# Altium schematic symbol library CeleronLib_Connect.SchLib: 88 symbols (part 1 of 2)
Pins are listed as number, name and electrical type; pins without a type are passive.

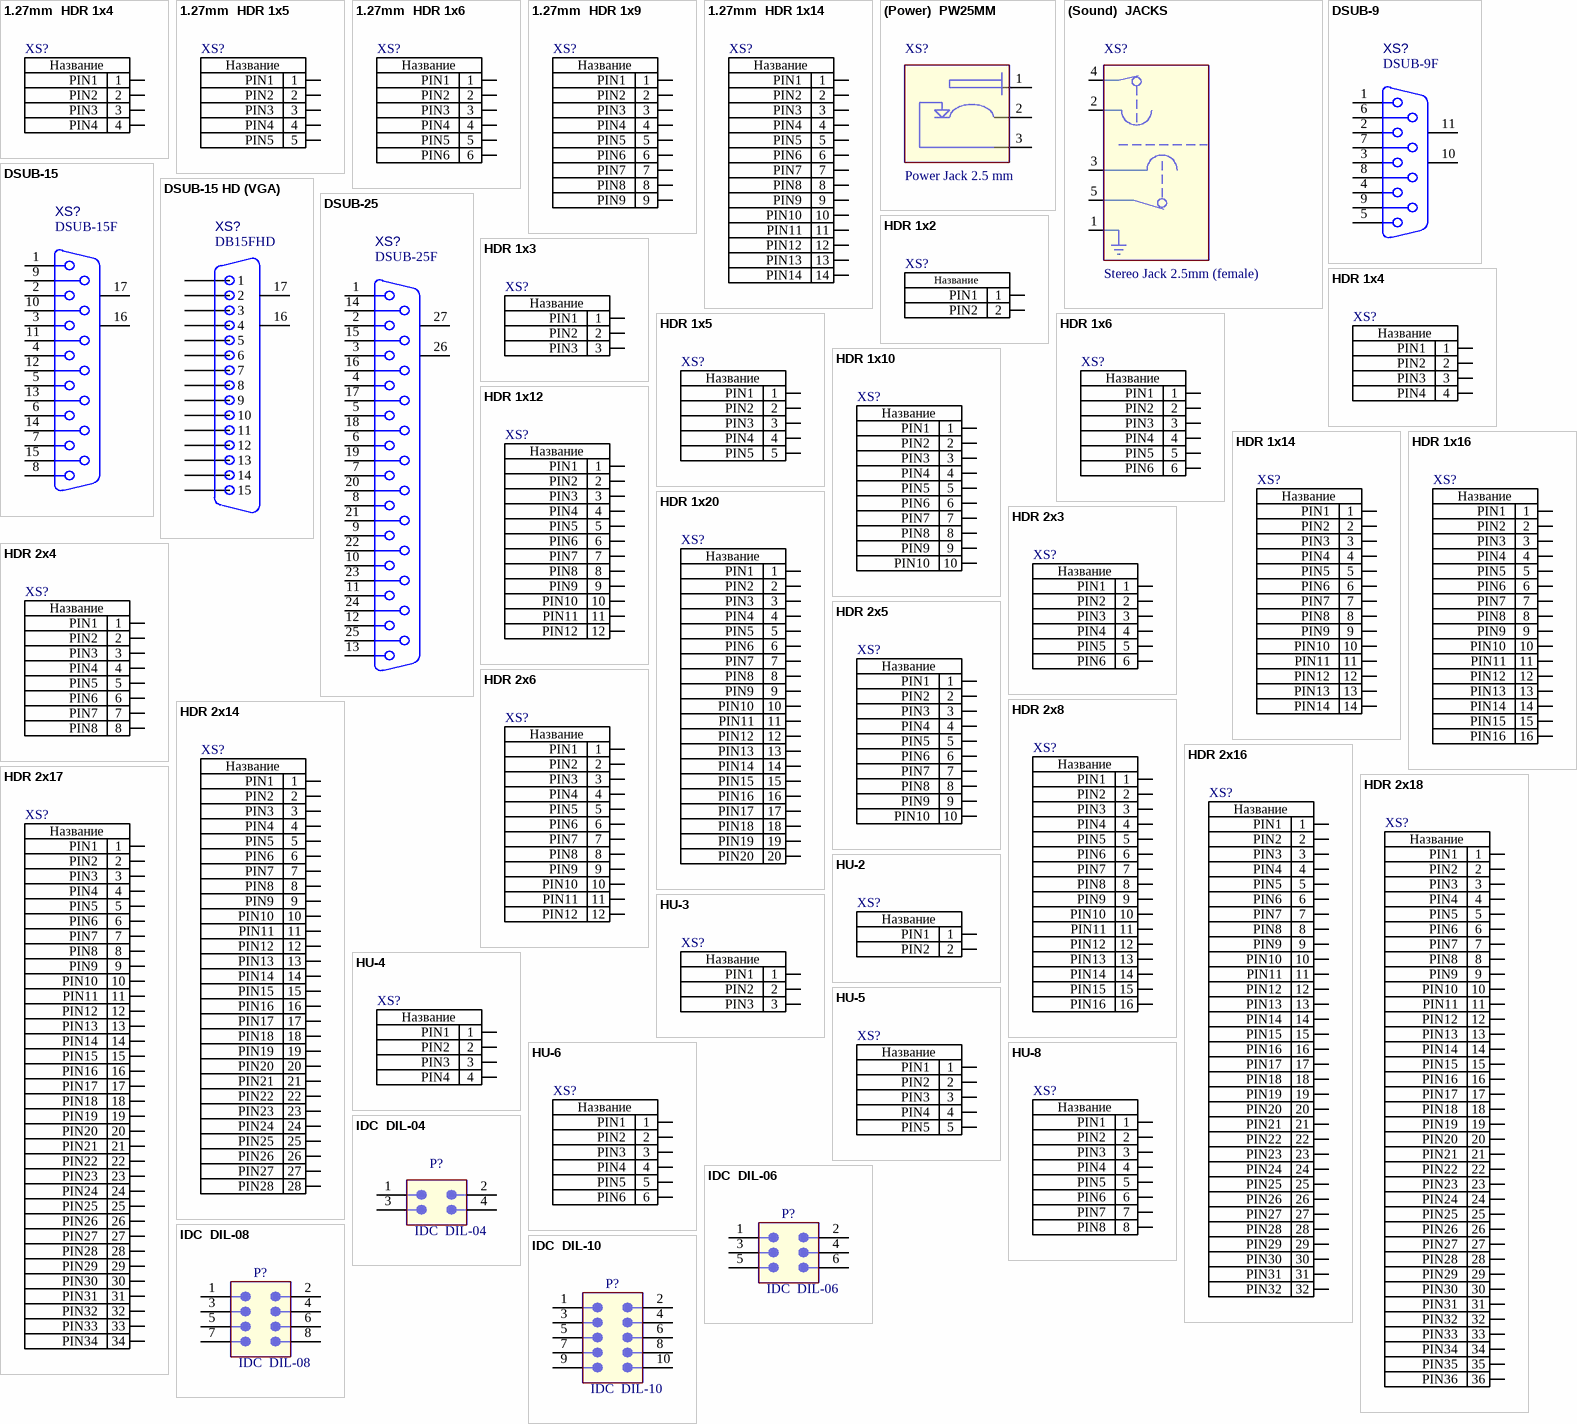
[diagram p0: symbols 1.27mm  HDR 1x4 to IDC  DIL-10]

## 1.27mm  HDR 1x4
designator XS?, comment Name: Название  (hidden comment: Разъём HDR 1x4)
Male, 4 pin single in line, 1.27; Device: HDR 1x4; ComponentLink1Description: Сайт производителя; ComponentLink2Description: Datasheet; Family: Разъём; ComponentLink3Description: Где купить?
footprint 4SIN-50
pins: 1 PIN1, 2 PIN2, 3 PIN3, 4 PIN4

## 1.27mm  HDR 1x5
designator XS?, comment Name: Название  (hidden comment: Разъём HDR 1x5)
Male, 5 pin single in line, 1.27; Device: HDR 1x5; ComponentLink1Description: Сайт производителя; ComponentLink2Description: Datasheet; Family: Разъём; ComponentLink3Description: Где купить?
footprint 5SIN-50
pins: 1 PIN1, 2 PIN2, 3 PIN3, 4 PIN4, 5 PIN5

## 1.27mm  HDR 1x6
designator XS?, comment Name: Название  (hidden comment: Разъём HDR 1x6)
Male, 6 pin single in line, 1.27; Device: HDR 1x6; ComponentLink1Description: Сайт производителя; ComponentLink2Description: Datasheet; Family: Разъём; ComponentLink3Description: Где купить?
footprint 6SIN-50
pins: 1 PIN1, 2 PIN2, 3 PIN3, 4 PIN4, 5 PIN5, 6 PIN6

## 1.27mm  HDR 1x9
designator XS?, comment Name: Название  (hidden comment: Разъём HDR 1x9)
Male, 9 pin single in line, 1.27; Device: HDR 1x9; ComponentLink1Description: Сайт производителя; ComponentLink2Description: Datasheet; Family: Разъём; ComponentLink3Description: Где купить?
footprint 9SIN-50
pins: 1 PIN1, 2 PIN2, 3 PIN3, 4 PIN4, 5 PIN5, 6 PIN6, 7 PIN7, 8 PIN8, 9 PIN9

## 1.27mm  HDR 1x14
designator XS?, comment Name: Название  (hidden comment: Разъём HDR 1x14)
Male, 14 pin single in line, 1.27; ComponentLink1Description: Сайт производителя; ComponentLink2Description: Datasheet; Device: HDR 1x14; Family: Разъём; ComponentLink3Description: Где купить?
footprint 14SIN-50
pins: 1 PIN1, 2 PIN2, 3 PIN3, 4 PIN4, 5 PIN5, 6 PIN6, 7 PIN7, 8 PIN8, 9 PIN9, 10 PIN10, 11 PIN11, 12 PIN12, 13 PIN13, 14 PIN14

## (Power)  PW25MM
designator XS?, comment Device: Power Jack 2.5 mm  (hidden comment: Разъём Power Jack 2.5 mm)
Power Jack 2.5 mm - with disjunction; Name: Название; ComponentLink1Description: Сайт производителя; ComponentLink2Description: Datasheet; Family: Разъём; ComponentLink3Description: Где купить?
footprint PW25MM (Power jack 2.5mm)
pins: 1, 2, 3

## (Sound)  JACKS
designator XS?, comment Device: Stereo Jack 2.5mm (female)  (hidden comment: Разъём Stereo Jack 2.5mm (female))
jack stereo - female - 2.5mm; Name: Название; ComponentLink1Description: Сайт производителя; ComponentLink2Description: Datasheet; Family: Разъём; ComponentLink3Description: Где купить?
footprint JACK-S-2.5
pins: 1, 2, 3, 4, 5

## DSUB-9
designator XS?, comment Device: DSUB-9F  (hidden comment: Разъём DSUB-9F)
DSub-9 pin; Name: Название; ComponentLink1Description: Сайт производителя; ComponentLink2Description: Datasheet; Family: Разъём; ComponentLink3Description: Где купить?
footprint DSUB-9F - WA (Female)
footprint DSUB-9M - WA (Male)
pins: 1, 2, 3, 4, 5, 6, 7, 8, 9, 10 MH1, 11 MH2

## DSUB-15
designator XS?, comment Device: DSUB-15F  (hidden comment: Разъём DSUB-15F)
DSub-15 pin; Name: Название; ComponentLink1Description: Сайт производителя; ComponentLink2Description: Datasheet; Family: Разъём; ComponentLink3Description: Где купить?
footprint DSUB-15F - WA (Female)
pins: 1, 2, 3, 4, 5, 6, 7, 8, 9, 10, 11, 12, 13, 14, 15, 16 MH1, 17 MH2

## DSUB-15 HD (VGA)
designator XS?, comment Device: DB15FHD  (hidden comment: Разъём DB15FHD)
D-Sub 15 pin 90* female (DB15FHD) / male (DB15MHD); Name: Название; ComponentLink1Description: Сайт производителя; ComponentLink2Description: Datasheet; Family: Разъём; ComponentLink3Description: Где купить?
footprint DB15FHD (VGA 15 DSUB FEMALE)
pins: 1, 2, 3, 4, 5, 6, 7, 8, 9, 10, 11, 12, 13, 14, 15, 16 MH1, 17 MH2

## DSUB-25
designator XS?, comment Device: DSUB-25F  (hidden comment: Разъём DSUB-25F)
DSub-25 pin; Name: Название; ComponentLink1Description: Сайт производителя; ComponentLink2Description: Datasheet; Family: Разъём; ComponentLink3Description: Где купить?
footprint DSUB-25M - WA (Male)
footprint DSUB-25F - WA (Female)
pins: 1, 2, 3, 4, 5, 6, 7, 8, 9, 10, 11, 12, 13, 14, 15, 16, 17, 18, 19, 20, 21, 22, 23, 24, 25, 26 MH1, 27 MH2

## HDR 1x2
designator XS?, comment Name: Название  (hidden comment: Разъём PLS-2)
Male, 2 pin single in line, 2.54; ComponentLink1Description: Сайт производителя; ComponentLink2Description: Datasheet; Device: PLS-2; Family: Разъём; ComponentLink3Description: Где купить?
footprint 2SIN
footprint HDR1X2 (Connector; Header; 2 Position)
footprint HDR1X2 - wide area (Connector; Header; 2 Position)
footprint HDR1X2H (Connector; Header; 2 Position; Right Angle)
footprint HDR1X2H - wide area (Connector; Header; 2 Position; Right Angle)
pins: 1 PIN1, 2 PIN2
1 alternate drawing of the same symbol

## HDR 1x3
designator XS?, comment Name: Название  (hidden comment: Разъём PLS-3)
Male, 3 pin single in line, 2.54; ComponentLink1Description: Сайт производителя; ComponentLink2Description: Datasheet; Device: PLS-3; Family: Разъём; ComponentLink3Description: Где купить?
footprint 3SIN
footprint HDR1X3 (Connector; Header; 3 Position)
footprint HDR1X3 - WA (Connector; Header; 3 Position)
footprint HDR1X3H (Connector; Header; 3 Position; Right Angle)
footprint HDR1X3H - wa (Connector; Header; 3 Position; Right Angle)
pins: 1 PIN1, 2 PIN2, 3 PIN3
1 alternate drawing of the same symbol

## HDR 1x4
designator XS?, comment Name: Название  (hidden comment: Разъём PLS-4)
Male, 4 pin single in line, 2.54; ComponentLink1Description: Сайт производителя; ComponentLink2Description: Datasheet; Device: PLS-4; Family: Разъём; ComponentLink3Description: Где купить?
footprint 4SIN
footprint HDR1X4 (Разъем двухрядный, шаг 2,54 мм.)
footprint HDR1X4 - WA (Разъем двухрядный, шаг 2,54 мм.)
footprint HDR1X4H (Connector; Header; 4 Position; Right Angle)
footprint HDR1X4H - wa (Connector; Header; 4 Position; Right Angle)
pins: 1 PIN1, 2 PIN2, 3 PIN3, 4 PIN4
1 alternate drawing of the same symbol

## HDR 1x5
designator XS?, comment Name: Название  (hidden comment: Разъём PLS-5)
Male, 5 pin single in line, 2.54; ComponentLink1Description: Сайт производителя; ComponentLink2Description: Datasheet; Device: PLS-5; Family: Разъём; ComponentLink3Description: Где купить?
footprint 5SIN
footprint HDR1X5 (Connector; Header; 5 Position)
footprint HDR1X5 - wide area (Connector; Header; 5 Position)
footprint HDR1X5H (Connector; Header; 5 Position; Right Angle)
footprint HDR1X5H - wa (Connector; Header; 5 Position; Right Angle)
pins: 1 PIN1, 2 PIN2, 3 PIN3, 4 PIN4, 5 PIN5
1 alternate drawing of the same symbol

## HDR 1x6
designator XS?, comment Name: Название  (hidden comment: Разъём PLS-6)
Male, 6 pin single in line, 2.54; ComponentLink1Description: Сайт производителя; ComponentLink2Description: Datasheet; Device: PLS-6; Family: Разъём; ComponentLink3Description: Где купить?
footprint 6SIN
footprint HDR1X6 (Connector; Header; 6 Position)
footprint HDR1X6 - wide area (Connector; Header; 6 Position)
footprint HDR1X6H - wa (Connector; Header; 6 Position; Right Angle)
footprint HDR1X6H (Connector; Header; 6 Position; Right Angle)
pins: 1 PIN1, 2 PIN2, 3 PIN3, 4 PIN4, 5 PIN5, 6 PIN6
1 alternate drawing of the same symbol

## HDR 1x10
designator XS?, comment Name: Название  (hidden comment: Разъём PLS-10)
Male, 10 pin single in line, 2.54; ComponentLink1Description: Сайт производителя; ComponentLink2Description: Datasheet; Device: PLS-10; Family: Разъём; ComponentLink3Description: Где купить?
footprint 10SIN
footprint HDR1X10 (Connector; Header; 10 Position)
footprint HDR1X10 - wa (Connector; Header; 10 Position)
footprint HDR1X10H (Connector; Header; 10 Position; Right Angle)
footprint HDR1X10H - wa (Connector; Header; 10 Position; Right Angle)
pins: 1 PIN1, 2 PIN2, 3 PIN3, 4 PIN4, 5 PIN5, 6 PIN6, 7 PIN7, 8 PIN8, 9 PIN9, 10 PIN10
1 alternate drawing of the same symbol

## HDR 1x12
designator XS?, comment Name: Название  (hidden comment: Разъём PLS-12)
Male, 12 pin single in line, 2.54; ComponentLink1Description: Сайт производителя; ComponentLink2Description: Datasheet; Device: PLS-12; Family: Разъём; ComponentLink3Description: Где купить?
footprint HDR1X12 (Connector; Header; 12 Position)
footprint HDR1X12 - WA (Connector; Header; 12 Position)
pins: 1 PIN1, 2 PIN2, 3 PIN3, 4 PIN4, 5 PIN5, 6 PIN6, 7 PIN7, 8 PIN8, 9 PIN9, 10 PIN10, 11 PIN11, 12 PIN12
1 alternate drawing of the same symbol

## HDR 1x14
designator XS?, comment Name: Название  (hidden comment: Разъём PLS-14)
Male, 14 pin single in line, 2.54; ComponentLink1Description: Сайт производителя; ComponentLink2Description: Datasheet; Device: PLS-14; Family: Разъём; ComponentLink3Description: Где купить?
footprint 14SIN
footprint HDR1X14 - WA (Connector; Header; 14 Position)
pins: 1 PIN1, 2 PIN2, 3 PIN3, 4 PIN4, 5 PIN5, 6 PIN6, 7 PIN7, 8 PIN8, 9 PIN9, 10 PIN10, 11 PIN11, 12 PIN12, 13 PIN13, 14 PIN14
1 alternate drawing of the same symbol

## HDR 1x16
designator XS?, comment Name: Название  (hidden comment: Разъём PLS-16)
Male, 16 pin single in line, 2.54; ComponentLink1Description: Сайт производителя; ComponentLink2Description: Datasheet; Device: PLS-16; Family: Разъём; ComponentLink3Description: Где купить?
footprint HDR1X16 - WA (Connector; Header; 16 Position)
pins: 1 PIN1, 2 PIN2, 3 PIN3, 4 PIN4, 5 PIN5, 6 PIN6, 7 PIN7, 8 PIN8, 9 PIN9, 10 PIN10, 11 PIN11, 12 PIN12, 13 PIN13, 14 PIN14, 15 PIN15, 16 PIN16
1 alternate drawing of the same symbol

## HDR 1x20
designator XS?, comment Name: Название  (hidden comment: Разъём PLS-20)
Male, 20 pin single in line, 2.54; ComponentLink1Description: Сайт производителя; ComponentLink2Description: Datasheet; Device: PLS-20; Family: Разъём; ComponentLink3Description: Где купить?
footprint 20SIN
pins: 1 PIN1, 2 PIN2, 3 PIN3, 4 PIN4, 5 PIN5, 6 PIN6, 7 PIN7, 8 PIN8, 9 PIN9, 10 PIN10, 11 PIN11, 12 PIN12, 13 PIN13, 14 PIN14, 15 PIN15, 16 PIN16, 17 PIN17, 18 PIN18, 19 PIN19, 20 PIN20
1 alternate drawing of the same symbol

## HDR 2x3
designator XS?, comment Name: Название  (hidden comment: Разъём PLD-6)
Male, 6 pin dual in line, 2.54; ComponentLink1Description: Сайт производителя; ComponentLink2Description: Datasheet; Device: PLD-6; Family: Разъём; ComponentLink3Description: Где купить?
footprint HDR2X3 (Connector; Header; 3x2 Position)
footprint HDR2X3 - wa (Connector; Header; 3x2 Position)
footprint HDR2X3H (Connector; Header; 3x2 Position; Right Angle)
footprint HDR2X3H - wa (Connector; Header; 3x2 Position; Right Angle)
footprint HDR2X3_CEN (Connector; Header; 3x2 Position)
footprint HDR2X3_CEN - wa (Connector; Header; 3x2 Position)
pins: 1 PIN1, 2 PIN2, 3 PIN3, 4 PIN4, 5 PIN5, 6 PIN6
1 alternate drawing of the same symbol

## HDR 2x4
designator XS?, comment Name: Название  (hidden comment: Разъём PLD-8)
Male, 8 pin dual in line, 2.54; ComponentLink1Description: Сайт производителя; ComponentLink2Description: Datasheet; Device: PLD-8; Family: Разъём; ComponentLink3Description: Где купить?
footprint HDR2X4 (Connector; Header; 4x2 Position)
footprint HDR2X4 - wide area (Connector; Header; 4x2 Position)
pins: 1 PIN1, 2 PIN2, 3 PIN3, 4 PIN4, 5 PIN5, 6 PIN6, 7 PIN7, 8 PIN8
1 alternate drawing of the same symbol

## HDR 2x5
designator XS?, comment Name: Название  (hidden comment: Разъём PLD-10)
Male, 10 pin dual in line, 2.54; ComponentLink1Description: Сайт производителя; ComponentLink2Description: Datasheet; Device: PLD-10; Family: Разъём; ComponentLink3Description: Где купить?
footprint HDR2X5 (Разъем двухрядный, шаг 2,54 мм.)
footprint HDR2X5 - WA (Разъем двухрядный, шаг 2,54 мм.)
footprint HDR2X5H (Connector; Header; 5x2 Position; Right Angle)
footprint HDR2X5H - WA (Connector; Header; 5x2 Position; Right Angle)
footprint HDR2X5_CEN (Разъем двухрядный, шаг 2,54 мм.)
footprint HDR2X5_CEN - WA (Разъем двухрядный, шаг 2,54 мм.)
pins: 1 PIN1, 2 PIN2, 3 PIN3, 4 PIN4, 5 PIN5, 6 PIN6, 7 PIN7, 8 PIN8, 9 PIN9, 10 PIN10
1 alternate drawing of the same symbol

## HDR 2x6
designator XS?, comment Name: Название  (hidden comment: Разъём PLD-12)
Male, 12 pin dual in line, 2.54; ComponentLink1Description: Сайт производителя; ComponentLink2Description: Datasheet; Device: PLD-12; Family: Разъём; ComponentLink3Description: Где купить?
footprint HDR2X6 (Connector; Header; 6x2 Position)
footprint HDR2X6 - wa (Connector; Header; 6x2 Position)
footprint HDR2X6H (Connector; Header; 6x2 Position; Right Angle)
footprint HDR2X6H - wa (Connector; Header; 6x2 Position; Right Angle)
footprint HDR2X6_CEN (Connector; Header; 6x2 Position)
footprint HDR2X6_CEN - wa (Connector; Header; 6x2 Position)
pins: 1 PIN1, 2 PIN2, 3 PIN3, 4 PIN4, 5 PIN5, 6 PIN6, 7 PIN7, 8 PIN8, 9 PIN9, 10 PIN10, 11 PIN11, 12 PIN12
1 alternate drawing of the same symbol

## HDR 2x8
designator XS?, comment Name: Название  (hidden comment: Разъём PLD-16)
Male, 16 pin dual in line, 2.54; ComponentLink1Description: Сайт производителя; ComponentLink2Description: Datasheet; Device: PLD-16; Family: Разъём; ComponentLink3Description: Где купить?
footprint HDR2X8 - WA (Connector; Header; 16 Position)
pins: 1 PIN1, 2 PIN2, 3 PIN3, 4 PIN4, 5 PIN5, 6 PIN6, 7 PIN7, 8 PIN8, 9 PIN9, 10 PIN10, 11 PIN11, 12 PIN12, 13 PIN13, 14 PIN14, 15 PIN15, 16 PIN16
1 alternate drawing of the same symbol

## HDR 2x14
designator XS?, comment Name: Название  (hidden comment: Разъём PLD-28)
Male, 28 pin dual in line, 2.54; ComponentLink1Description: Сайт производителя; ComponentLink2Description: Datasheet; Device: PLD-28; Family: Разъём; ComponentLink3Description: Где купить?
footprint HDR2X14 - WA (Connector; Header; 28 Position)
pins: 1 PIN1, 2 PIN2, 3 PIN3, 4 PIN4, 5 PIN5, 6 PIN6, 7 PIN7, 8 PIN8, 9 PIN9, 10 PIN10, 11 PIN11, 12 PIN12, 13 PIN13, 14 PIN14, 15 PIN15, 16 PIN16, 17 PIN17, 18 PIN18, 19 PIN19, 20 PIN20, 21 PIN21, 22 PIN22, 23 PIN23, 24 PIN24, 25 PIN25, 26 PIN26, 27 PIN27, 28 PIN28
1 alternate drawing of the same symbol

## HDR 2x16
designator XS?, comment Name: Название  (hidden comment: Разъём PLD-32)
Male, 32 pin dual in line, 2.54; ComponentLink1Description: Сайт производителя; ComponentLink2Description: Datasheet; Device: PLD-32; Family: Разъём; ComponentLink3Description: Где купить?
footprint HDR2X16 - WA (Connector; Header; 32 Position)
pins: 1 PIN1, 2 PIN2, 3 PIN3, 4 PIN4, 5 PIN5, 6 PIN6, 7 PIN7, 8 PIN8, 9 PIN9, 10 PIN10, 11 PIN11, 12 PIN12, 13 PIN13, 14 PIN14, 15 PIN15, 16 PIN16, 17 PIN17, 18 PIN18, 19 PIN19, 20 PIN20, 21 PIN21, 22 PIN22, 23 PIN23, 24 PIN24, 25 PIN25, 26 PIN26, 27 PIN27, 28 PIN28, 29 PIN29, 30 PIN30, 31 PIN31, 32 PIN32
1 alternate drawing of the same symbol

## HDR 2x17
designator XS?, comment Name: Название  (hidden comment: Разъём PLD-34)
Male, 34 pin dual in line, 2.54; ComponentLink1Description: Сайт производителя; ComponentLink2Description: Datasheet; Device: PLD-34; Family: Разъём; ComponentLink3Description: Где купить?
footprint HDR2X17 - WA (Connector; Header; 34 Position)
pins: 1 PIN1, 2 PIN2, 3 PIN3, 4 PIN4, 5 PIN5, 6 PIN6, 7 PIN7, 8 PIN8, 9 PIN9, 10 PIN10, 11 PIN11, 12 PIN12, 13 PIN13, 14 PIN14, 15 PIN15, 16 PIN16, 17 PIN17, 18 PIN18, 19 PIN19, 20 PIN20, 21 PIN21, 22 PIN22, 23 PIN23, 24 PIN24, 25 PIN25, 26 PIN26, 27 PIN27, 28 PIN28, 29 PIN29, 30 PIN30, 31 PIN31, 32 PIN32, 33 PIN33, 34 PIN34
1 alternate drawing of the same symbol

## HDR 2x18
designator XS?, comment Name: Название  (hidden comment: Разъём PLD-36)
Male, 36 pin dual in line, 2.54; ComponentLink1Description: Сайт производителя; ComponentLink2Description: Datasheet; Device: PLD-36; Family: Разъём; ComponentLink3Description: Где купить?
footprint HDR2X18 - WA (Connector; Header; 36 Position)
pins: 1 PIN1, 2 PIN2, 3 PIN3, 4 PIN4, 5 PIN5, 6 PIN6, 7 PIN7, 8 PIN8, 9 PIN9, 10 PIN10, 11 PIN11, 12 PIN12, 13 PIN13, 14 PIN14, 15 PIN15, 16 PIN16, 17 PIN17, 18 PIN18, 19 PIN19, 20 PIN20, 21 PIN21, 22 PIN22, 23 PIN23, 24 PIN24, 25 PIN25, 26 PIN26, 27 PIN27, 28 PIN28, 29 PIN29, 30 PIN30, 31 PIN31, 32 PIN32, 33 PIN33, 34 PIN34, 35 PIN35, 36 PIN36
1 alternate drawing of the same symbol

## HU-2
designator XS?, comment Name: Название  (hidden comment: Разъём HU-2)
Male, 2 pin single in line, 2.54; ComponentLink1Description: Сайт производителя; ComponentLink2Description: Datasheet; Device: HU-2; Family: Разъём; ComponentLink3Description: Где купить?
footprint HU,WH-2 - WA (Connector; Header; 2 Position)
pins: 1 PIN1, 2 PIN2

## HU-3
designator XS?, comment Name: Название  (hidden comment: Разъём HU-3)
Male, 3 pin single in line, 2.54; ComponentLink1Description: Сайт производителя; ComponentLink2Description: Datasheet; Device: HU-3; Family: Разъём; ComponentLink3Description: Где купить?
footprint HU,WH-3 - WA (Connector; Header; 3 Position)
pins: 1 PIN1, 2 PIN2, 3 PIN3

## HU-4
designator XS?, comment Name: Название  (hidden comment: Разъём HU-4)
Male, 4 pin single in line, 2.54; ComponentLink1Description: Сайт производителя; ComponentLink2Description: Datasheet; Device: HU-4; Family: Разъём; ComponentLink3Description: Где купить?
footprint HU,WH-4 - WA (Connector; Header; 4 Position)
pins: 1 PIN1, 2 PIN2, 3 PIN3, 4 PIN4

## HU-5
designator XS?, comment Name: Название  (hidden comment: Разъём HU-5)
Male, 5 pin single in line, 2.54; ComponentLink1Description: Сайт производителя; ComponentLink2Description: Datasheet; Device: HU-5; Family: Разъём; ComponentLink3Description: Где купить?
footprint HU,WH-5 - WA (Connector; Header; 5 Position)
pins: 1 PIN1, 2 PIN2, 3 PIN3, 4 PIN4, 5 PIN5

## HU-6
designator XS?, comment Name: Название  (hidden comment: Разъём HU-6)
Male, 6 pin single in line, 2.54; ComponentLink1Description: Сайт производителя; ComponentLink2Description: Datasheet; Device: HU-6; Family: Разъём; ComponentLink3Description: Где купить?
footprint HU,WH-6 - WA (Connector; Header; 6 Position)
pins: 1 PIN1, 2 PIN2, 3 PIN3, 4 PIN4, 5 PIN5, 6 PIN6

## HU-8
designator XS?, comment Name: Название  (hidden comment: Разъём HU-8)
Male, 8 pin single in line, 2.54; ComponentLink1Description: Сайт производителя; ComponentLink2Description: Datasheet; Device: HU-8; Family: Разъём; ComponentLink3Description: Где купить?
footprint HU,WH-8 - WA (Connector; Header; 8 Position)
pins: 1 PIN1, 2 PIN2, 3 PIN3, 4 PIN4, 5 PIN5, 6 PIN6, 7 PIN7, 8 PIN8

## IDC  DIL-04
designator P?
Flat Cable Connector (IDC), PCB Transition Connector, 2 Rows, Solder Pin, 4 Contacts; Name: Название; ComponentLink1Description: Сайт производителя; ComponentLink1URL: http://www.harting.com/; ComponentLink2Description: Selection Guide; ComponentLink2URL: http://www.harting.com/imperia/md/content/steckverbinderundsystemkomponenten/folder/interface_engl_chapter_09.pdf; Device: IDC  DIL-04; Family: Разъём; ComponentLink3Description: Где купить?
footprint DIL-04-SV (Connector; IDC, PCB Transition - 2 Rows, Thru-Hole; 4 Position; Vertical; Pitch 2.54 mm; Body 10.38 x 6.1 x 7.45 mm (LxWxH))
pins: 1, 2, 3, 4

## IDC  DIL-06
designator P?
Flat Cable Connector (IDC), PCB Transition Connector, 2 Rows, Solder Pin, 6 Contacts; Name: Название; ComponentLink1Description: Сайт производителя; ComponentLink1URL: http://www.harting.com/; ComponentLink2Description: Selection Guide; ComponentLink2URL: http://www.harting.com/imperia/md/content/steckverbinderundsystemkomponenten/folder/interface_engl_chapter_09.pdf; Device: IDC  DIL-06; Family: Разъём; ComponentLink3Description: Где купить?
footprint DIL-06-SV (Connector; IDC, PCB Transition - 2 Rows, Thru-Hole; 6 Position; Vertical; Pitch 2.54 mm; Body 12.92 x 6.1 x 7.45 mm (LxWxH))
footprint DIL-06-HV (Connector; IDC, Thru-Hole; 6 Position; Vertical; Pitch 2.54 mm; Body 26.90 x 8.5 x 17.30 mm (LxWxH), Without locking levers)
pins: 1, 2, 3, 4, 5, 6

## IDC  DIL-08
designator P?
Flat Cable Connector (IDC), PCB Transition Connector, 2 Rows, Solder Pin, 8 Contacts; Name: Название; ComponentLink1Description: Сайт производителя; ComponentLink1URL: http://www.harting.com/; ComponentLink2Description: Packaging Specification; ComponentLink2URL: http://www.harkis.harting.com/_sek/pdf/TB_09181089621_BL01_R32151.pdf; Device: IDC  DIL-08; Family: Разъём; ComponentLink3Description: Где купить?
footprint DIL-08-SV (Connector; IDC, PCB Transition - 2 Rows, Thru-Hole; 8 Position; Vertical; Pitch 2.54 mm; Body 15.46 x 6.1 x 7.45 mm (LxWxH))
pins: 1, 2, 3, 4, 5, 6, 7, 8

## IDC  DIL-10
designator P?
Flat Cable Connector (IDC), PCB Transition Connector, 2 Rows, Solder Pin, 10 Contacts; Name: Название; ComponentLink1Description: Сайт производителя; ComponentLink1URL: http://www.harting.com/; ComponentLink2Description: Selection Guide; ComponentLink2URL: http://www.harting.com/imperia/md/content/steckverbinderundsystemkomponenten/folder/interface_engl_chapter_09.pdf; Device: IDC  DIL-10; Family: Разъём; ComponentLink3Description: Где купить?
footprint DIL-10-SV (Connector; IDC, PCB Transition - 2 Rows, Thru-Hole; 10 Position; Vertical; Pitch 2.54 mm; Body 18.00 x 6.1 x 7.45 mm (LxWxH))
footprint DIL-10-HV (Connector; IDC, Thru-Hole; 10 Position; Vertical; Pitch 2.54 mm; Body 32.30 x 8.5 x 17.30 mm (LxWxH), Without locking levers)
footprint BH-10 HDR2X5 (Footprint not found)
footprint BH-10 HDR2X5 - wide area (Connector; Header; 5x2 Position)
footprint BH-10  2x5 mini (Connector; Header; 5x2 Position)
footprint BH-10  2x5 mini - wa (Connector; Header; 5x2 Position)
pins: 1, 2, 3, 4, 5, 6, 7, 8, 9, 10

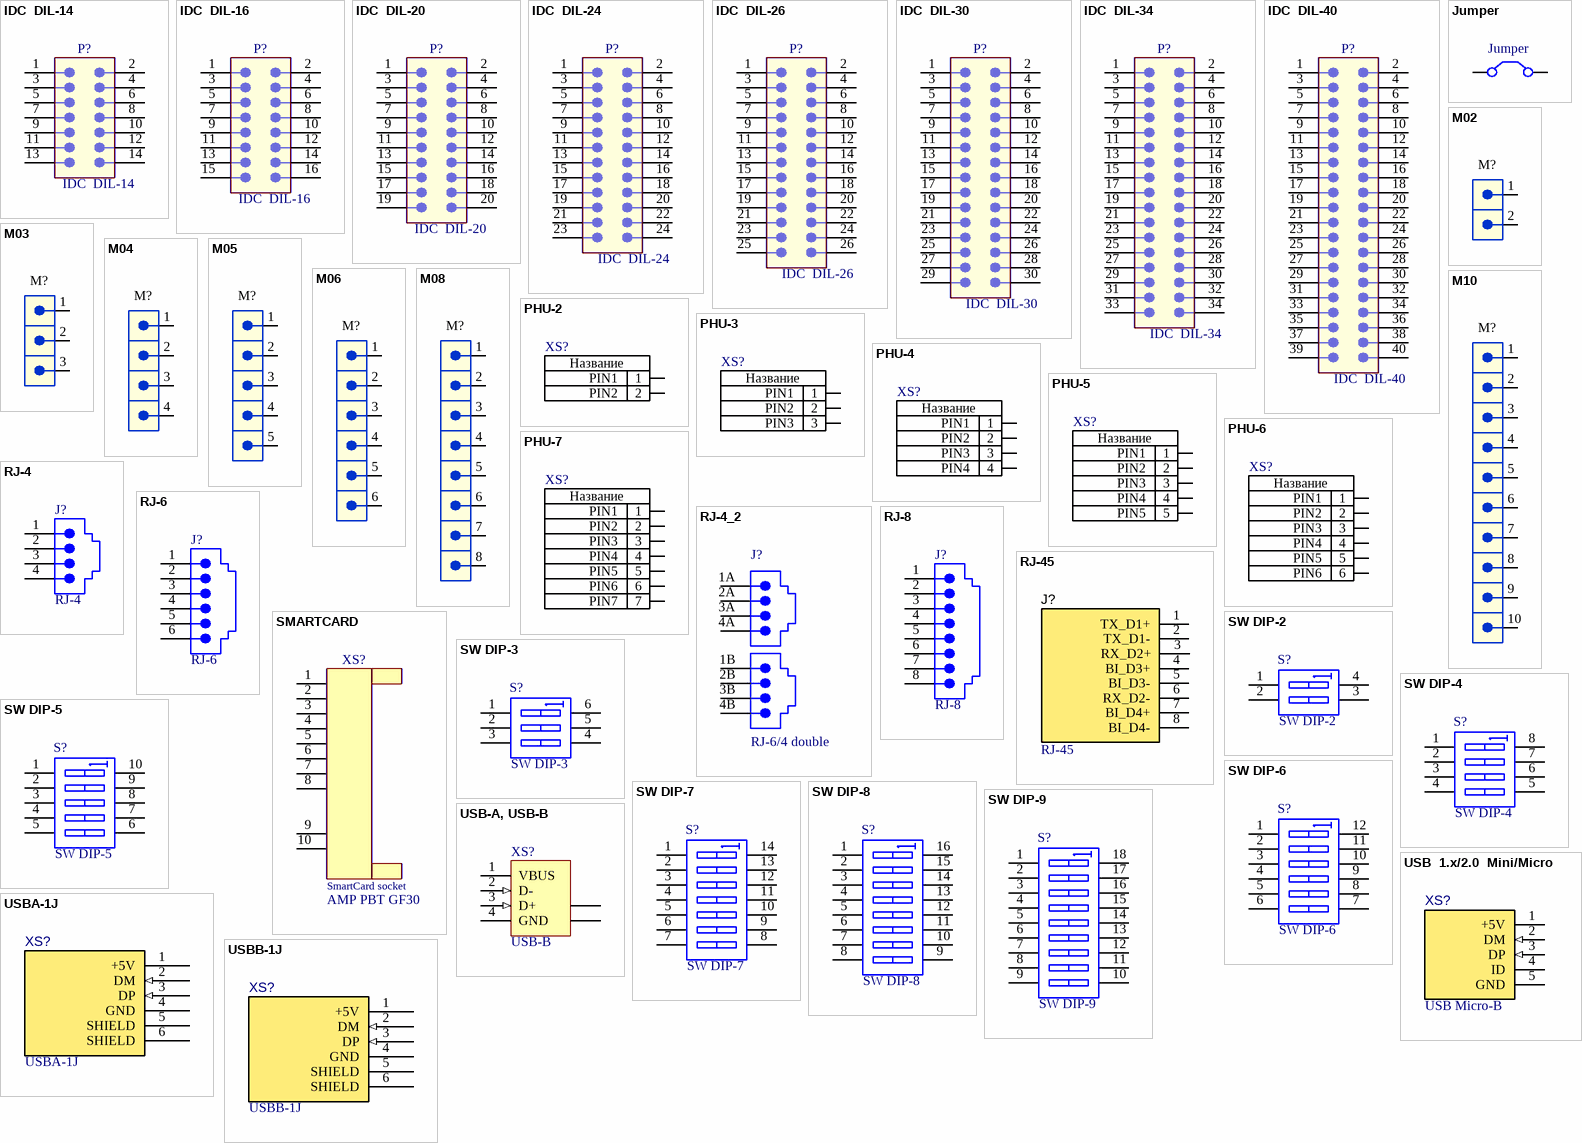
[diagram p1: symbols IDC  DIL-14 to USBB-1J]

## IDC  DIL-14
designator P?
Flat Cable Connector (IDC), PCB Transition Connector, 2 Rows, Solder Pin, 14 Contacts; Name: Название; ComponentLink1Description: Сайт производителя; ComponentLink1URL: http://www.harting.com/; ComponentLink2Description: Selection Guide; ComponentLink2URL: http://www.harting.com/imperia/md/content/steckverbinderundsystemkomponenten/folder/interface_engl_chapter_09.pdf; Device: IDC  DIL-14; Family: Разъём; ComponentLink3Description: Где купить?
footprint DIL-14-SV (Connector; IDC, PCB Transition - 2 Rows, Thru-Hole; 14 Position; Vertical; Pitch 2.54 mm; Body 23.08 x 6.1 x 7.45 mm (LxWxH))
footprint DIL-14-HV (Connector; IDC, Thru-Hole; 14 Position; Vertical; Pitch 2.54 mm; Body 37.40 x 8.5 x 17.30 mm (LxWxH), Without locking levers)
pins: 1, 2, 3, 4, 5, 6, 7, 8, 9, 10, 11, 12, 13, 14

## IDC  DIL-16
designator P?
Flat Cable Connector (IDC), PCB Transition Connector, 2 Rows, Solder Pin, 16 Contacts; Name: Название; ComponentLink1Description: Сайт производителя; ComponentLink1URL: http://www.harting.com/; ComponentLink2Description: Selection Guide; ComponentLink2URL: http://www.harting.com/imperia/md/content/steckverbinderundsystemkomponenten/folder/interface_engl_chapter_09.pdf; Device: IDC  DIL-16; Family: Разъём; ComponentLink3Description: Где купить?
footprint DIL-16-SV (Connector; IDC, PCB Transition - 2 Rows, Thru-Hole; 16 Position; Vertical; Pitch 2.54 mm; Body 25.62 x 6.1 x 7.45 mm (LxWxH))
footprint DIL-16-HV (Connector; IDC, Thru-Hole; 16 Position; Vertical; Pitch 2.54 mm; Body 39.90 x 8.5 x 17.30 mm (LxWxH), Without locking levers)
pins: 1, 2, 3, 4, 5, 6, 7, 8, 9, 10, 11, 12, 13, 14, 15, 16

## IDC  DIL-20
designator P?
Flat Cable Connector (IDC), PCB Transition Connector, 2 Rows, Solder Pin, 20 Contacts; Name: Название; ComponentLink1Description: Сайт производителя; ComponentLink1URL: http://www.harting.com/; ComponentLink2Description: Selection Guide; ComponentLink2URL: http://www.harting.com/imperia/md/content/steckverbinderundsystemkomponenten/folder/interface_engl_chapter_09.pdf; Device: IDC  DIL-20; Family: Разъём; ComponentLink3Description: Где купить?
footprint DIL-20-SV (Connector; IDC, PCB Transition - 2 Rows, Thru-Hole; 20 Position; Vertical; Pitch 2.54 mm; Body 30.74 x 6.1 x 7.45 mm (LxWxH))
footprint DIL-20-HV (Connector; IDC, Thru-Hole; 20 Position; Vertical; Pitch 2.54 mm; Body 45.00 x 8.5 x 17.30 mm (LxWxH), Without locking levers)
footprint BH20 2X10 (Connector; Header; 10x2 Position)
footprint BH20 2X10 - wide area (Connector; Header; 10x2 wide area)
footprint BH20 2X10 MINI (Connector; Header; 10x2 Position)
pins: 1, 2, 3, 4, 5, 6, 7, 8, 9, 10, 11, 12, 13, 14, 15, 16, 17, 18, 19, 20

## IDC  DIL-24
designator P?
Flat Cable Connector (IDC), PCB Transition Connector, 2 Rows, Solder Pin, 24 Contacts; Name: Название; ComponentLink1Description: Сайт производителя; ComponentLink1URL: http://www.harting.com/; ComponentLink2Description: Packaging Specification; ComponentLink2URL: http://www.harkis.harting.com/_sek/pdf/TB_09181249621_BL01_R32151.pdf; Device: IDC  DIL-24; Family: Разъём; ComponentLink3Description: Где купить?
footprint DIL-24-SV (Connector; IDC, PCB Transition - 2 Rows, Thru-Hole; 24 Position; Vertical; Pitch 2.54 mm; Body 35.78 x 6.1 x 7.45 mm (LxWxH))
pins: 1, 2, 3, 4, 5, 6, 7, 8, 9, 10, 11, 12, 13, 14, 15, 16, 17, 18, 19, 20, 21, 22, 23, 24

## IDC  DIL-26
designator P?
Flat Cable Connector (IDC), PCB Transition Connector, 2 Rows, Solder Pin, 26 Contacts; Name: Название; ComponentLink1Description: Сайт производителя; ComponentLink1URL: http://www.harting.com/; ComponentLink2Description: Selection Guide; ComponentLink2URL: http://www.harting.com/imperia/md/content/steckverbinderundsystemkomponenten/folder/interface_engl_chapter_09.pdf; Device: IDC  DIL-26; Family: Разъём; ComponentLink3Description: Где купить?
footprint DIL-26-SV (Connector; IDC, PCB Transition - 2 Rows, Thru-Hole; 26 Position; Vertical; Pitch 2.54 mm; Body 38.32 x 6.1 x 7.45 mm (LxWxH))
footprint DIL-26-HV (Connector; IDC, Thru-Hole; 26 Position; Vertical; Pitch 2.54 mm; Body 52.60 x 8.5 x 17.30 mm (LxWxH), Without locking levers)
pins: 1, 2, 3, 4, 5, 6, 7, 8, 9, 10, 11, 12, 13, 14, 15, 16, 17, 18, 19, 20, 21, 22, 23, 24, 25, 26

## IDC  DIL-30
designator P?
Flat Cable Connector (IDC), PCB Transition Connector, 2 Rows, Solder Pin, 30 Contacts; Name: Название; ComponentLink1Description: Сайт производителя; ComponentLink1URL: http://www.harting.com/; ComponentLink2Description: Packaging Specification; ComponentLink2URL: http://www.harkis.harting.com/_sek/pdf/TB_09181309621_BL01_R32151.pdf; Device: IDC  DIL-30; Family: Разъём; ComponentLink3Description: Где купить?
footprint DIL-30-SV (Connector; IDC, PCB Transition - 2 Rows, Thru-Hole; 30 Position; Vertical; Pitch 2.54 mm; Body 43.40 x 6.1 x 7.45 mm (LxWxH))
pins: 1, 2, 3, 4, 5, 6, 7, 8, 9, 10, 11, 12, 13, 14, 15, 16, 17, 18, 19, 20, 21, 22, 23, 24, 25, 26, 27, 28, 29, 30

## IDC  DIL-34
designator P?
Flat Cable Connector (IDC), PCB Transition Connector, 2 Rows, Solder Pin, 34 Contacts; Name: Название; ComponentLink1Description: Сайт производителя; ComponentLink1URL: http://www.harting.com/; ComponentLink2Description: Selection Guide; ComponentLink2URL: http://www.harting.com/imperia/md/content/steckverbinderundsystemkomponenten/folder/interface_engl_chapter_09.pdf; Device: IDC  DIL-34; Family: Разъём; ComponentLink3Description: Где купить?
footprint DIL-34-SV (Connector; IDC, PCB Transition - 2 Rows, Thru-Hole; 34 Position; Vertical; Pitch 2.54 mm; Body 48.48 x 6.1 x 7.45 mm (LxWxH))
footprint DIL-34-HV (Connector; IDC, Thru-Hole; 34 Position; Vertical; Pitch 2.54 mm; Body 62.80 x 8.5 x 17.30 mm (LxWxH), Without locking levers)
pins: 1, 2, 3, 4, 5, 6, 7, 8, 9, 10, 11, 12, 13, 14, 15, 16, 17, 18, 19, 20, 21, 22, 23, 24, 25, 26, 27, 28, 29, 30, 31, 32, 33, 34

## IDC  DIL-40
designator P?
Flat Cable Connector (IDC), PCB Transition Connector, 2 Rows, Solder Pin, 40 Contacts; Name: Название; ComponentLink1Description: Сайт производителя; ComponentLink1URL: http://www.harting.com/; ComponentLink2Description: Selection Guide; ComponentLink2URL: http://www.harting.com/imperia/md/content/steckverbinderundsystemkomponenten/folder/interface_engl_chapter_09.pdf; Device: IDC  DIL-40; Family: Разъём; ComponentLink3Description: Где купить?
footprint DIL-40-SV (Connector; IDC, PCB Transition - 2 Rows, Thru-Hole; 40 Position; Vertical; Pitch 2.54 mm; Body 56.10 x 6.1 x 7.45 mm (LxWxH))
footprint DIL-40-HV (Connector; IDC, Thru-Hole; 40 Position; Vertical; Pitch 2.54 mm; Body 70.40 x 8.5 x 17.30 mm (LxWxH), Without locking levers)
pins: 1, 2, 3, 4, 5, 6, 7, 8, 9, 10, 11, 12, 13, 14, 15, 16, 17, 18, 19, 20, 21, 22, 23, 24, 25, 26, 27, 28, 29, 30, 31, 32, 33, 34, 35, 36, 37, 38, 39, 40

## Jumper
designator JS?, comment Name: Jumper  (hidden comment: Перемычка SMD 1206)  (net tie, no BOM)
Перемычка; Device: SMD 1206; Family: Перемычка
footprint Jumper SMD 0805 - Closed (Jumper. Перемычка. Chip Resistor; Body 2.0 x 1.3 mm (LxW typ))
footprint Jumper SMD 0805 - Open (Jumper. Перемычка. Chip Resistor; Body 2.0 x 1.3 mm (LxW typ))
footprint Jumper SMD 0805wa - Closed (Jumper. Перемычка. Chip Resistor; Body 2.0 x 1.3 mm (LxW typ))
footprint Jumper SMD 0805wa - Open (Jumper. Перемычка. Chip Resistor; Body 2.0 x 1.3 mm (LxW typ))
footprint Jumper SMD 1206 - Closed (Jumper. Перемычка. Chip Resistor; Body 3.1 x 1.6 mm (LxW typ))
footprint Jumper SMD 1206 - Open (Jumper. Перемычка. Chip Resistor; Body 3.1 x 1.6 mm (LxW typ))
footprint Jumper SMD 1206wa - Closed (Jumper. Перемычка. Chip Resistor; Body 3.1 x 1.6 mm (LxW typ))
footprint Jumper SMD 1206wa - Open (Jumper. Перемычка. Chip Resistor; Body 3.1 x 1.6 mm (LxW typ))
footprint Jumper SMD Small (Jumper. Перемычка. Chip Resistor; Body 2.0 x 1.3 mm (LxW typ))
footprint Jumper THD 10mm (Jumper  перемычка 10 мм)
pins: 1, 2
4 alternate drawings of the same symbol

## M02
designator M?  (value not drawn)
Mammut c.s. simgle - 2 pin 5.08mm; Name: Название; ComponentLink1Description: Сайт производителя; ComponentLink2Description: Datasheet; Family: Разъём; ComponentLink3Description: Где купить?
footprint M2
pins: 1, 2

## M03
designator M?  (value not drawn)
Mammut c.s. simgle - 3 pin 5.08mm; Name: Название; ComponentLink1Description: Сайт производителя; ComponentLink2Description: Datasheet; Family: Разъём; ComponentLink3Description: Где купить?
footprint M3
pins: 1, 2, 3

## M04
designator M?  (value not drawn)
Mammut c.s. simgle - 4 pin 5.08mm; Name: Название; ComponentLink1Description: Сайт производителя; ComponentLink2Description: Datasheet; Family: Разъём; ComponentLink3Description: Где купить?
footprint M4
pins: 1, 2, 3, 4

## M05
designator M?  (value not drawn)
Mammut c.s. simgle - 5 pin 5.08mm; Name: Название; ComponentLink1Description: Сайт производителя; ComponentLink2Description: Datasheet; Family: Разъём; ComponentLink3Description: Где купить?
footprint M5
pins: 1, 2, 3, 4, 5

## M06
designator M?  (value not drawn)
Mammut c.s. simgle - 6 pin 5.08mm; Name: Название; ComponentLink1Description: Сайт производителя; ComponentLink2Description: Datasheet; Family: Разъём; ComponentLink3Description: Где купить?
footprint M6
pins: 1, 2, 3, 4, 5, 6

## M08
designator M?  (value not drawn)
Mammut c.s. simgle - 8 pin 5.08mm; Name: Название; ComponentLink1Description: Сайт производителя; ComponentLink2Description: Datasheet; Family: Разъём; ComponentLink3Description: Где купить?
footprint M8
pins: 1, 2, 3, 4, 5, 6, 7, 8

## M10
designator M?  (value not drawn)
Mammut c.s. simgle - 10 pin 5.08mm; Name: Название; ComponentLink1Description: Сайт производителя; ComponentLink2Description: Datasheet; Family: Разъём; ComponentLink3Description: Где купить?
footprint M10
pins: 1, 2, 3, 4, 5, 6, 7, 8, 9, 10

## PHU-2
designator XS?, comment Name: Название  (hidden comment: Разъём PHU-2)
Male, 2 pin single in line, 3.96mm; ComponentLink1Description: Сайт производителя; ComponentLink2Description: Datasheet; Device: PHU-2; Family: Разъём; ComponentLink3Description: Где купить?
footprint PHU,PWL-2 - WA (3.96mm (.156") Pitch KK® Solid Header, Vertical, Friction Lock, 2 Circuits, Tin (Sn) Plating)
pins: 1 PIN1, 2 PIN2

## PHU-3
designator XS?, comment Name: Название  (hidden comment: Разъём PHU-3)
Male, 3 pin single in line, 3.96mm; ComponentLink1Description: Сайт производителя; ComponentLink2Description: Datasheet; Device: PHU-3; Family: Разъём; ComponentLink3Description: Где купить?
footprint PHU,PWL-3 - WA (3.96mm (.156") Pitch KK® Solid Header, Vertical, Friction Lock, 3 Circuits, Tin (Sn) Plating)
pins: 1 PIN1, 2 PIN2, 3 PIN3

## PHU-4
designator XS?, comment Name: Название  (hidden comment: Разъём PHU-4)
Male, 4 pin single in line, 3.96mm; ComponentLink1Description: Сайт производителя; ComponentLink2Description: Datasheet; Device: PHU-4; Family: Разъём; ComponentLink3Description: Где купить?
footprint PHU,PWL-4 - WA (3.96mm (.156") Pitch KK® Solid Header, Vertical, Friction Lock, 4 Circuits, Tin (Sn) Plating)
pins: 1 PIN1, 2 PIN2, 3 PIN3, 4 PIN4

## PHU-5
designator XS?, comment Name: Название  (hidden comment: Разъём PHU-5)
Male, 5 pin single in line, 3.96mm; ComponentLink1Description: Сайт производителя; ComponentLink2Description: Datasheet; Device: PHU-5; Family: Разъём; ComponentLink3Description: Где купить?
footprint PHU,PWL-5 - WA (3.96mm (.156") Pitch KK® Solid Header, Vertical, Friction Lock, 5 Circuits, Tin (Sn) Plating)
pins: 1 PIN1, 2 PIN2, 3 PIN3, 4 PIN4, 5 PIN5

## PHU-6
designator XS?, comment Name: Название  (hidden comment: Разъём PHU-6)
Male, 6 pin single in line, 3.96mm; ComponentLink1Description: Сайт производителя; ComponentLink2Description: Datasheet; Device: PHU-6; Family: Разъём; ComponentLink3Description: Где купить?
footprint PHU,PWL-6 - WA (3.96mm (.156") Pitch KK® Solid Header, Vertical, Friction Lock, 6 Circuits, Tin (Sn) Plating)
pins: 1 PIN1, 2 PIN2, 3 PIN3, 4 PIN4, 5 PIN5, 6 PIN6

## PHU-7
designator XS?, comment Name: Название  (hidden comment: Разъём PHU-7)
Male, 7 pin single in line, 3.96mm; ComponentLink1Description: Сайт производителя; ComponentLink2Description: Datasheet; Device: PHU-7; Family: Разъём; ComponentLink3Description: Где купить?
footprint PHU,PWL-7 - WA (3.96mm (.156") Pitch KK® Solid Header, Vertical, Friction Lock, 7 Circuits, Tin (Sn) Plating)
pins: 1 PIN1, 2 PIN2, 3 PIN3, 4 PIN4, 5 PIN5, 6 PIN6, 7 PIN7

## RJ-4
designator J?, comment Device: RJ-4  (hidden comment: Разъём RJ-4)
Right Angle, Low Profile, Flangeless PCB Jack; Name: Название; ComponentLink1Description: Сайт производителя; ComponentLink1URL: http://www.molex.com/; ComponentLink2Description: Datasheet; ComponentLink2URL: http://www.molex.com/cmc_upload/common_files/1222003_mx95001b.pdf; ComponentLink4Description: Iges Model; ComponentLink4URL: http://www.molex.com/pdm_docs/igs/95001-2441_igs.zip; Family: Разъём; ComponentLink3Description: Где купить?
footprint RJ-4 (Connector; PCB Jack, Thru-Hole; 1-Port, 4 Positions, 4 Loaded; Unshielded without Lightpipes; Right Angle)
signal-integrity model Modular Jack
pins: 1, 2, 3, 4

## RJ-4_2
designator J?, comment Device: RJ-6/4 double  (hidden comment: Разъём RJ-6/4 double)
Right Angle, Low Profile, Flangeless PCB Jack; Name: Название; ComponentLink1Description: Сайт производителя; ComponentLink1URL: http://www.molex.com/; ComponentLink2Description: Datasheet; ComponentLink2URL: http://www.molex.com/cmc_upload/common_files/1222003_mx95001b.pdf; ComponentLink4Description: Iges Model; ComponentLink4URL: http://www.molex.com/pdm_docs/igs/95001-2441_igs.zip; Family: Разъём; ComponentLink3Description: Где купить?
footprint RJ-6/4 double (Connector; PCB Jack, Thru-Hole; 2-Port, 6 Positions, 4 Loaded; Unshielded without Lightpipes; Right Angle)
pins: 1A 1, 1B 1, 2A 2, 2B 2, 3A 3, 3B 3, 4A 4, 4B 4

## RJ-6
designator J?, comment Device: RJ-6  (hidden comment: Разъём RJ-6)
Right Angle, Low Profile, Flangeless PCB Jack; Name: Название; ComponentLink1Description: Сайт производителя; ComponentLink1URL: http://www.molex.com/; ComponentLink2Description: Datasheet; ComponentLink2URL: http://www.molex.com/cmc_upload/common_files/1222003_mx95001b.pdf; ComponentLink4Description: Iges Model; ComponentLink4URL: http://www.molex.com/pdm_docs/igs/95001-2441_igs.zip; Family: Разъём; ComponentLink3Description: Где купить?
footprint RJ-6 (Connector; PCB Jack, Thru-Hole; 1-Port, 6 Positions, 6 Loaded; Unshielded without Lightpipes; Right Angle)
signal-integrity model Modular Jack
pins: 1, 2, 3, 4, 5, 6

## RJ-8
designator J?, comment Device: RJ-8  (hidden comment: Разъём RJ-8)
Right Angle, Low Profile, Flangeless PCB Jack; Name: Название; ComponentLink1Description: Сайт производителя; ComponentLink1URL: http://www.molex.com/; ComponentLink2Description: Datasheet; ComponentLink2URL: http://www.molex.com/cmc_upload/common_files/1222003_mx95001b.pdf; ComponentLink4Description: Iges Model; ComponentLink4URL: http://www.molex.com/pdm_docs/igs/95001-2441_igs.zip; Family: Разъём; ComponentLink3Description: Где купить?
footprint RJ-8 (Connector; PCB Jack, Thru-Hole; 1-Port, 8 Positions, 8 Loaded; Unshielded without Lightpipes; Right Angle)
signal-integrity model Modular Jack
pins: 1, 2, 3, 4, 5, 6, 7, 8

## RJ-45
designator J?, comment Device: RJ-45  (hidden comment: Разъём RJ-45)
Разъем RJ-45 на плату; Name: Название; ComponentLink1Description: Сайт производителя; ComponentLink2Description: Datasheet; Family: Разъём; ComponentLink3Description: Где купить?
footprint RJ-45
footprint RJ-45 - WA
pins: 1 TX_D1+, 2 TX_D1-, 3 RX_D2+, 4 BI_D3+, 5 BI_D3-, 6 RX_D2- (power), 7 BI_D4+, 8 BI_D4-

## SMARTCARD
designator XS?, comment Family: SmartCard socket  Device: AMP PBT GF30  (hidden comment: SmartCard socket AMP PBT GF30)
SmartCard socket - AMP PBT GF30; Name: Название; ComponentLink1Description: Сайт производителя; ComponentLink2Description: Datasheet; ComponentLink3Description: Где купить?
footprint SMARTCARD SOCKET (AMP PBT GF 30)
pins: 1, 2, 3, 4, 5, 6, 7, 8, 9, 10

## SW DIP-2
designator S?, comment Device: SW DIP-2  (hidden comment: DIP-переключатель  SW DIP-2)
DIP Switch, 2 Position, SPST; Current: 100mA; Name: Название; Voltage: 50VDC; Package: DIP-4; ComponentLink1Description: Сайт производителя; ComponentLink2Description: Datasheet; ComponentLink2URL: http://ru.mouser.com/Electromechanical/Switches/DIP-Switches-SIP-Switches/Datasheets/_/N-5g2s; ComponentLink3Description: Где купить?; ComponentLink3URL: http://voron.ua/catalog/010315; Family: DIP-переключатель
simulation model dpsw2 (Spice Subcircuit)
footprint SW_TYCO_1825057-1 (Body 7.1x7.5mm, 2 Ways SPST DIP Switch, Thru Hole, TYCO AD Series)
footprint SW_TYCO_1571983-1 (Pitch 1.27mm,  Body 3.66x6.2mm, 2 Ways SPST Surface-Mount DIP Switch, TYCO GDH Serie)
footprint SW DIP-2 (DIP 4 Leads, Row Spacing 7.62 mm; Pitch 2.54 mm)
pins: 1 A1, 2 A2, 3 B2, 4 B1

## SW DIP-3
designator S?, comment Device: SW DIP-3  (hidden comment: DIP-переключатель  SW DIP-3)
DIP Switch, 3 Position, SPST; Current: 100mA; Name: Название; Voltage: 50VDC; Package: DIP-6; ComponentLink1Description: Сайт производителя; ComponentLink2Description: Datasheet; ComponentLink2URL: http://ru.mouser.com/Electromechanical/Switches/DIP-Switches-SIP-Switches/Datasheets/_/N-5g2s; ComponentLink3Description: Где купить?; ComponentLink3URL: http://voron.ua/catalog/010315; Family: DIP-переключатель
simulation model dpsw3 (Spice Subcircuit)
footprint SW DIP-3 (DIP 6 Leads, Row Spacing 7.62 mm; Pitch 2.54 mm)
pins: 1 A1, 2 A2, 3 A3, 4 B3, 5 B2, 6 B1

## SW DIP-4
designator S?, comment Device: SW DIP-4  (hidden comment: DIP-переключатель  SW DIP-4)
DIP Switch, 4 Position, SPST; Current: 100mA; Name: Название; Voltage: 50VDC; Package: SO8; ComponentLink1Description: Сайт производителя; ComponentLink2Description: Datasheet; ComponentLink2URL: http://ru.mouser.com/Electromechanical/Switches/DIP-Switches-SIP-Switches/Datasheets/_/N-5g2s; ComponentLink3Description: Где купить?; ComponentLink3URL: http://voron.ua/catalog/010315; Family: DIP-переключатель
simulation model dpsw4 (Spice Subcircuit)
footprint SW_TYCO_1825057-3 (Body 12.1x7.5mm, 4 Ways SPST DIP Switch, Thru Hole, TYCO AD Series)
footprint SW_TYCO_1571983-4 (Pitch 1.27mm,  Body 6.2x6.2mm, 4 Ways SPST Surface-Mount DIP Switch, TYCO GDH Serie)
footprint SW DIP-4 (DIP 8 Leads, Row Spacing 7.62 mm; Pitch 2.54 mm)
pins: 1 A1, 2 A2, 3 A3, 4 A4, 5 B4, 6 B3, 7 B2, 8 B1

## SW DIP-5
designator S?, comment Device: SW DIP-5  (hidden comment: DIP-переключатель  SW DIP-5)
DIP Switch, 5 Position, SPST; Current: 100mA; Name: Название; Voltage: 50VDC; Package: N10A; ComponentLink1Description: Сайт производителя; ComponentLink2Description: Datasheet; ComponentLink2URL: http://ru.mouser.com/Electromechanical/Switches/DIP-Switches-SIP-Switches/Datasheets/_/N-5g2s; ComponentLink3Description: Где купить?; ComponentLink3URL: http://voron.ua/catalog/010315; Family: DIP-переключатель
simulation model dpsw5 (Spice Subcircuit)
footprint SW DIP-5 (DIP 10 Leads, Row Spacing 7.62 mm; Pitch 2.54 mm)
pins: 1 A1, 2 A2, 3 A3, 4 A4, 5 A5, 6 B5, 7 B4, 8 B3, 9 B2, 10 B1

## SW DIP-6
designator S?, comment Device: SW DIP-6  (hidden comment: DIP-переключатель  SW DIP-6)
DIP Switch, 6 Position, SPST; Current: 100mA; Name: Название; Voltage: 50VDC; Package: DIP-12/SW; ComponentLink1Description: Сайт производителя; ComponentLink2Description: Datasheet; ComponentLink2URL: http://ru.mouser.com/Electromechanical/Switches/DIP-Switches-SIP-Switches/Datasheets/_/N-5g2s; ComponentLink3Description: Где купить?; ComponentLink3URL: http://voron.ua/catalog/010315; Family: DIP-переключатель
footprint SW DIP-6 (DIP 12 Leads, Row Spacing 7.62 mm; Pitch 2.54 mm)
simulation model dpsw6 (Spice Subcircuit)
pins: 1 A1, 2 A2, 3 A3, 4 A4, 5 A5, 6 A6, 7 B6, 8 B5, 9 B4, 10 B3, 11 B2, 12 B1

## SW DIP-7
designator S?, comment Device: SW DIP-7  (hidden comment: DIP-переключатель  SW DIP-7)
DIP Switch, 7 Position, SPST; Current: 100mA; Name: Название; Voltage: 50VDC; Package: DIP-14; ComponentLink1Description: Сайт производителя; ComponentLink2Description: Datasheet; ComponentLink2URL: http://ru.mouser.com/Electromechanical/Switches/DIP-Switches-SIP-Switches/Datasheets/_/N-5g2s; ComponentLink3Description: Где купить?; ComponentLink3URL: http://voron.ua/catalog/010315; Family: DIP-переключатель
footprint SW DIP-7 (DIP 14 Leads, Row Spacing 7.62 mm; Pitch 2.54 mm)
simulation model dpsw7 (Spice Subcircuit)
pins: 1 A1, 2 A2, 3 A3, 4 A4, 5 A5, 6 A6, 7 A7, 8 B7, 9 B6, 10 B5, 11 B4, 12 B3, 13 B2, 14 B1

## SW DIP-8
designator S?, comment Device: SW DIP-8  (hidden comment: DIP-переключатель  SW DIP-8)
DIP Switch, 8 Position, SPST; Current: 100mA; Name: Название; Voltage: 50VDC; Package: DIP_SW_8WAY_SMD; ComponentLink1Description: Сайт производителя; ComponentLink2Description: Datasheet; ComponentLink2URL: http://ru.mouser.com/Electromechanical/Switches/DIP-Switches-SIP-Switches/Datasheets/_/N-5g2s; ComponentLink3Description: Где купить?; ComponentLink3URL: http://voron.ua/catalog/010315; Family: DIP-переключатель
simulation model dpsw8 (Spice Subcircuit)
footprint SW_TYCO_1825057-7 (Body 22.3x7.5mm, 8 Ways SPST DIP Switch, Thru Hole, TYCO AD Series)
footprint DIP_SW_8WAY_SMD
footprint SW DIP-8 (DIP 16 Leads, Row Spacing 7.62 mm; Pitch 2.54 mm)
pins: 1 A1, 2 A2, 3 A3, 4 A4, 5 A5, 6 A6, 7 A7, 8 A8, 9 B8, 10 B7, 11 B6, 12 B5, 13 B4, 14 B3, 15 B2, 16 B1

## SW DIP-9
designator S?, comment Device: SW DIP-9  (hidden comment: DIP-переключатель  SW DIP-9)
DIP Switch, 9 Position, SPST; Current: 100mA; Name: Название; Voltage: 50VDC; Package: DIP-18; ComponentLink1Description: Сайт производителя; ComponentLink2Description: Datasheet; ComponentLink2URL: http://ru.mouser.com/Electromechanical/Switches/DIP-Switches-SIP-Switches/Datasheets/_/N-5g2s; ComponentLink3Description: Где купить?; ComponentLink3URL: http://voron.ua/catalog/010315; Family: DIP-переключатель
footprint SW DIP-9 (DIP 18 Leads, Row Spacing 7.62 mm; Pitch 2.54 mm)
simulation model dpsw9 (Spice Subcircuit)
pins: 1 A1, 2 A2, 3 A3, 4 A4, 5 A5, 6 A6, 7 A7, 8 A8, 9 A9, 10 B9, 11 B8, 12 B7, 13 B6, 14 B5, 15 B4, 16 B3, 17 B2, 18 B1

## USB  1.x/2.0  Mini/Micro
designator XS?, comment Device: USB Micro-B  (hidden comment: Разъём USB Micro-B)
Разъем USB-B на плату; Name: Название; ComponentLink4URL: http://en.wikipedia.org/wiki/Universal_Serial_Bus; ComponentLink5Description: Datasheet Micro-USB; ComponentLink5URL: http://www.mouser.com/ds/2/185/e24200011-37133.pdf; ComponentLink6Description: Datasheet Mini-USB (deprecated); ComponentLink6URL: http://www.sparkfun.com/datasheets/Prototyping/miniUSB-Dimensional.pdf; Family: Разъём; ComponentLink3Description: Где купить?; ComponentLink4Description: Pinout; ComponentLink1Description: Сайт производителя; ComponentLink2Description: Datasheet
footprint USB/SM0.8-6H5 Mini-B (Connector; USB2.0 Mini-B, Type B, SM; 5 Position; Right Angle)
footprint USB/SM0.8-4H5 Micro-B (Connector; USB Mini-B, Sinking Type, SM; 5 Position; Right Angle)
pins: 1 +5V (power), 2 DM (in), 3 DP (in), 4 ID (power), 5 GND (power)

## USB-A, USB-B
designator XS?, comment Device: USB-B  (hidden comment: Разъём USB-B)
USB 1.1, Right Angle, Thru-Hole, A Type, Receptacle, 4 Position, Black; Name: Название; ComponentLink1Description: Сайт производителя; ComponentLink1URL: http://www.tycoelectronics.com/; ComponentLink2Description: Packaging Specification; ComponentLink2URL: http://ecommas.tycoelectronics.com/commerce/DocumentDelivery/DDEController?Action=showdoc&DocId=Customer+Drawing%7F787761%7FH%7Ftif%7FEnglish%7FENG_CD_787761_H.tif; Family: Разъём; ComponentLink3Description: Где купить?
signal-integrity model USB1.1
footprint USB-A-787761 (Connector; USB1.1, Type A, Thru-Hole; 4 Position; Right Angle)
footprint USB-B
pins: 1 VBUS (power) "Power", 2 D- (in) "-DATA", 3 D+ (in) "+DATA", 4 GND (power) "Ground", 5 SHLD "Shield", 6 SHLD "Shield"

## USBA-1J
designator XS?, comment Device: USBA-1J  (hidden comment: Разъём USBA-1J)
Разъем USBA на плату; Name: Название; ComponentLink1Description: Сайт производителя; ComponentLink2Description: Datasheet; Family: Разъём; ComponentLink3Description: Где купить?
footprint USB2.5-2H4 (Connector; USB1.1, Series A, Reverse Type, Thru-Hole; 4 Position; Right Angle)
footprint USB2.5-2H4A (Connector; USB1.1, Series A, Reverse Type, Thru-Hole; 4 Position; Right Angle)
footprint USB2.5-2H4C (Connector; USB1.1, Type A, Thru-Hole; 4 Position; Right Angle)
footprint USB2.5-2H4B (Connector; USB1.1, Type A, Thru-Hole; 4 Position; Right Angle)
footprint USB2.5-2V4A (Connector; USB1.1, Type A, Thru-Hole; 4 Position; Vertical)
pins: 1 +5V (power), 2 DM (in), 3 DP (in), 4 GND (power), 5 SHIELD (power), 6 SHIELD (power)

## USBB-1J
designator XS?, comment Device: USBB-1J  (hidden comment: Разъём USBB-1J)
Разъем USBB на плату; Name: Название; ComponentLink1Description: Сайт производителя; ComponentLink2Description: Datasheet; Family: Разъём; ComponentLink3Description: Где купить?
footprint USB2.5-2H4D (Connector; USB1.1, Type B, Thru-Hole; 4 Position; Right Angle)
footprint USB2.5-2H4G (Connector; USB1.1, Type B, Thru-Hole; 4 Position; Right Angle)
footprint USB2.5-2V4 (Connector; USB1.1, Type B, Thru-Hole; 4 Position; Vertical)
footprint USB/SM1.25-4H4 (Connector; USB1.1, Type B, SM; 4 Position; Right Angle)
footprint USB0.8-2V5 (Connector; USB Mini-B, Type 2, Thru-Hole; 5 Position; Vertical)
footprint USB2.5-4V4 (Connector; USB1.1, Type B, Thru-Hole; 4 Position; Vertical)
footprint USB2.5-2H4F (Connector; USB1.1, Type B, Thru-Hole; 4 Position; Right Angle)
footprint USB2.5-2H4E (Connector; USB1.1, Type B, Thru-Hole; 4 Position; Right Angle)
pins: 1 +5V (power), 2 DM (in), 3 DP (in), 4 GND (power), 5 SHIELD (power), 6 SHIELD (power)

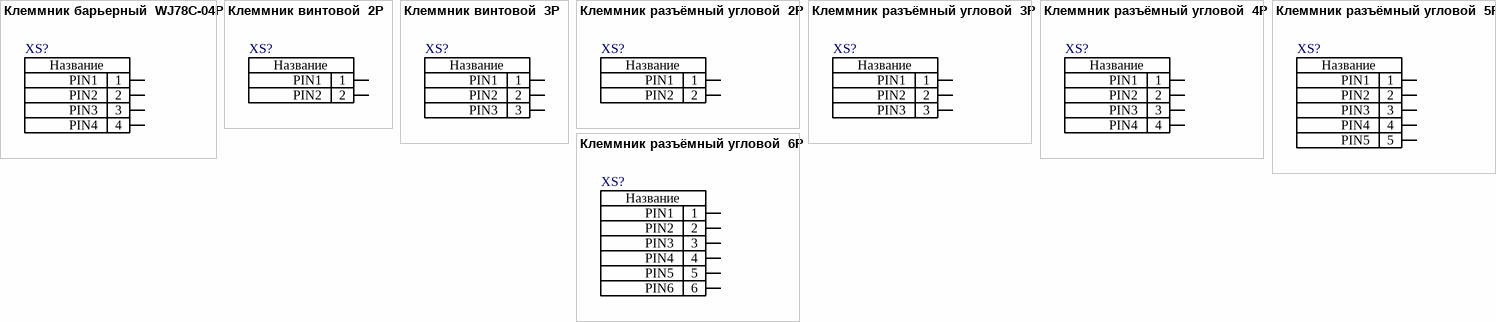
[diagram p2: symbols Клеммник барьерный  WJ78C-04P to Клеммник разъёмный угловой  6P]

## Клеммник барьерный  WJ78C-04P
designator XS?, comment Name: Название  (hidden comment: Клеммник барьерный WJ78C-04P (40A .. 41A / 600V .. 750V))
Клеммник барьерный WJ78C-04P (40A, винт М3, шаг 13мм, 4 контакта); ComponentLink1Description: Сайт производителя; ComponentLink1URL: http://en.china-wj.com/products_detail/&productId=224.html; ComponentLink2Description: Datasheet; ComponentLink2URL: http://voron.ua/files/pdf/wj/WJ78C.pdf; ComponentLink3Description: Где купить?; ComponentLink3URL: http://voron.ua/catalog/016844; Voltage: 600V .. 750V; Current: 40A .. 41A; Family: Клеммник барьерный; Device: WJ78C-04P
footprint WJ78C-04P-13mm (Клеммник барьерный WJ78C-04P (40A, винт М3, шаг 13мм, 4 контакта))
pins: 1 PIN1, 2 PIN2, 3 PIN3, 4 PIN4

## Клеммник винтовой  2P
designator XS?, comment Name: Название  (hidden comment: Клеммник винтовой TB-02A (10A / 250V))
Клеммник винтовой; ComponentLink1Description: Сайт производителя; ComponentLink2Description: Datasheet; ComponentLink3Description: Где купить?; ComponentLink3URL: http://www.brownbear.ru/goods/2869.html; Current: 10A; Voltage: 250V; Family: Клеммник винтовой; Device: TB-02A
footprint TB-02A (2pin-5.00mm) (Клеммник короткий, шаг 5.00мм http://www.brownbear.ru/goods/2869.html)
pins: 1 PIN1, 2 PIN2

## Клеммник винтовой  3P
designator XS?, comment Name: Название  (hidden comment: Клеммник винтовой TB-02B (10A / 250V))
Клеммник винтовой; ComponentLink1Description: Сайт производителя; ComponentLink2Description: Datasheet; ComponentLink3Description: Где купить?; ComponentLink3URL: http://www.brownbear.ru/components/TB-01B.html; Current: 10A; Voltage: 250V; Device: TB-02B; Family: Клеммник винтовой
footprint TB-02B (3pin-5.00mm) (Клеммник короткий, шаг 5.00мм  http://www.brownbear.ru/goods/2869.html)
pins: 1 PIN1, 2 PIN2, 3 PIN3

## Клеммник разъёмный угловой  2P
designator XS?, comment Name: Название  (hidden comment: Клеммник разъёмный 2EDGR-5.08-02P (6A .. 15A / 300V))
Клеммник разъёмный; ComponentLink1Description: Сайт производителя; ComponentLink2Description: Datasheet; ComponentLink3Description: Где купить?; Current: 6A .. 15A; Voltage: 300V; Family: Клеммник разъёмный; Device: 2EDGR-5.08-02P
footprint 2EDGR-5.08-02P (Клеммник 2EDGR-5.08-02P (на плату, угловой, 2 pin, шаг 5.08мм))
footprint 2EDGR-5.00-02P (Клеммник 2EDGR-5.00-02P (на плату, угловой, 2 pin, шаг 5.08мм))
pins: 1 PIN1, 2 PIN2